# EAGLE library part MC74HC74ADG (library FSAE Eletric)
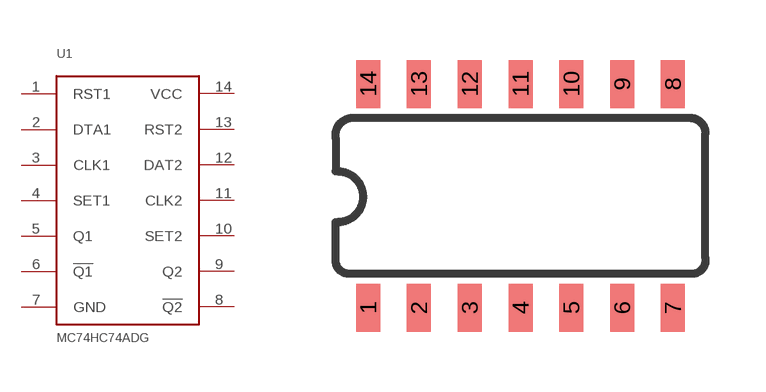
[diagram p4: symbol with the pads of SO-14; footprint SO-14]

Designator prefix U1

## MC74HC74ADG  [SO-14]
1  RST1
2  DTA1
3  CLK1
4  SET1
5  Q1
6  !Q1
7  GND
8  !Q2
9  Q2
10  SET2
11  CLK2
12  DAT2
13  RST2
14  VCC

## Footprint SO-14 (pad centres in mm)
smd 0.6 x 1.2: 1 -3.81,-2.8; 2 -2.54,-2.8; 3 -1.27,-2.8; 4 0,-2.8; 5 1.27,-2.8; 6 2.54,-2.8; 7 3.81,-2.8; 8 3.81,2.8; 9 2.54,2.8; 10 1.27,2.8; 11 0,2.8; 12 -1.27,2.8; 13 -2.54,2.8; 14 -3.81,2.8